# EAGLE library part MPR084 (library Eagle-JeeLabs)
Proximity Capacitive Touch Sensor Controller
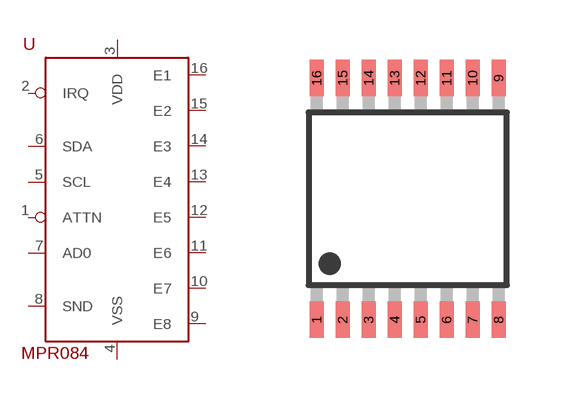
[diagram p20: symbol with the pads of TSSOP16-PW; footprint TSSOP16-PW]

Designator prefix -

## MPR084  [TSSOP16-PW]
1  ATTN  in
2  IRQ  oc
3  VDD  pwr
4  VSS  pwr
5  SCL
6  SDA
7  AD0  in
8  SND  out
9  E8  in
10  E7  in
11  E6  in
12  E5  in
13  E4  in
14  E3  in
15  E2  in
16  E1  in

## Footprint TSSOP16-PW (pad centres in mm)
PLASTIC SMALL-OUTLINE PACKAGE PW (R-PDSO-G16) Source: www.ti.com .. ADS7828.pdf
smd 0.35 x 0.9: 1 -2.275,-3.025; 2 -1.625,-3.025; 3 -0.975,-3.025; 4 -0.325,-3.025; 5 0.325,-3.025; 6 0.975,-3.025; 7 1.625,-3.025; 8 2.275,-3.025; 9 2.275,3.025; 10 1.625,3.025; 11 0.975,3.025; 12 0.325,3.025; 13 -0.325,3.025; 14 -0.975,3.025; 15 -1.625,3.025; 16 -2.275,3.025